# EAGLE library part LM3601PWP_LM43601PWPR (library Filter Board)
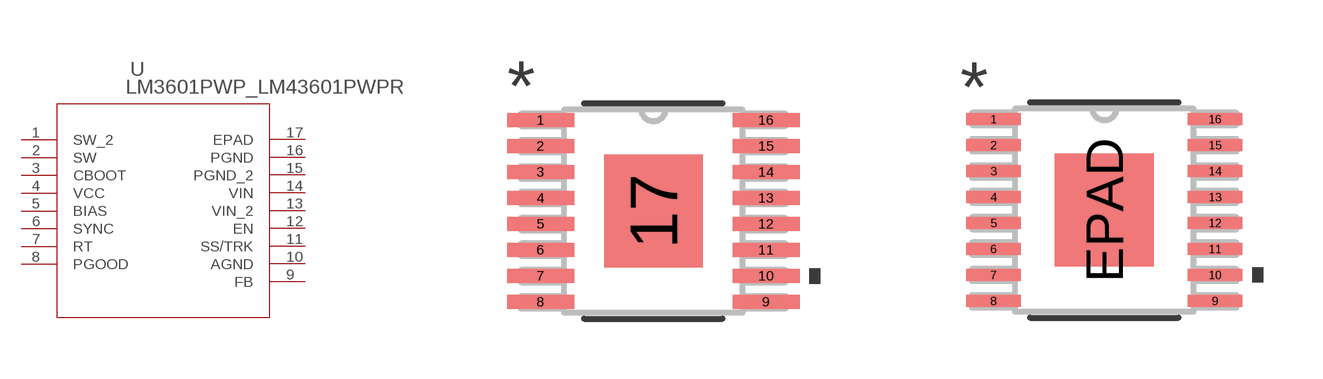
[diagram p0: symbol with the pads of LM3601PWP_PWP16; footprints LM3601PWP_PWP16, LM3601PWP_PWP16-L]

Designator prefix U

## LM3601PWP_LM43601PWPR (MANUFACTURER_PART_NUMBER: LM43601PWPR; VENDOR: Texas Instruments)  [LM3601PWP_PWP16]
1  SW_2  out
2  SW  out
3  CBOOT  pas
4  VCC  pwr
5  BIAS  in
6  SYNC  in
7  RT  pas
8  PGOOD  out
9  FB  in
10  AGND  pwr
11  SS/TRK  pas
12  EN  in
13  VIN_2  in
14  VIN  in
15  PGND_2  pwr
16  PGND  pwr
17  EPAD  pas

## LM3601PWP_LM43601PWPRPWP16-L (MANUFACTURER_PART_NUMBER: LM43601PWPR; VENDOR: Texas Instruments)  [LM3601PWP_PWP16-L]
1  SW_2  out
2  SW  out
3  CBOOT  pas
4  VCC  pwr
5  BIAS  in
6  SYNC  in
7  RT  pas
8  PGOOD  out
9  FB  in
10  AGND  pwr
11  SS/TRK  pas
12  EN  in
13  VIN_2  in
14  VIN  in
15  PGND_2  pwr
16  PGND  pwr

## LM3601PWP_LM43601PWPRPWP16-M (MANUFACTURER_PART_NUMBER: LM43601PWPR; VENDOR: Texas Instruments)  [LM3601PWP_PWP16-M]
Pads as for LM3601PWP_PWP16-L

## Footprint LM3601PWP_PWP16 (pad centres in mm)
smd 1.676 x 0.356: 1 -2.819,2.275; 2 -2.819,1.625; 3 -2.819,0.975; 4 -2.819,0.325; 5 -2.819,-0.325; 6 -2.819,-0.975; 7 -2.819,-1.625; 8 -2.819,-2.275; 9 2.819,-2.275; 10 2.819,-1.625; 11 2.819,-0.975; 12 2.819,-0.325; 13 2.819,0.325; 14 2.819,0.975; 15 2.819,1.625; 16 2.819,2.275
smd 2.464 x 2.819: 17 0,0

## Footprint LM3601PWP_PWP16-L (pad centres in mm)
smd 1.372 x 0.305: 1 -2.769,2.275; 2 -2.769,1.625; 3 -2.769,0.975; 4 -2.769,0.325; 5 -2.769,-0.325; 6 -2.769,-0.975; 7 -2.769,-1.625; 8 -2.769,-2.275; 9 2.769,-2.275; 10 2.769,-1.625; 11 2.769,-0.975; 12 2.769,-0.325; 13 2.769,0.325; 14 2.769,0.975; 15 2.769,1.625; 16 2.769,2.275
smd 2.464 x 2.819: EPAD 0,0

## Footprint LM3601PWP_PWP16-M (pad centres in mm)
smd 1.981 x 0.406: 1 -2.87,2.275; 2 -2.87,1.625; 3 -2.87,0.975; 4 -2.87,0.325; 5 -2.87,-0.325; 6 -2.87,-0.975; 7 -2.87,-1.625; 8 -2.87,-2.275; 9 2.87,-2.275; 10 2.87,-1.625; 11 2.87,-0.975; 12 2.87,-0.325; 13 2.87,0.325; 14 2.87,0.975; 15 2.87,1.625; 16 2.87,2.275
smd 2.464 x 2.819: EPAD 0,0